# EAGLE library part PCF1252 (library nxp_60)
Threshold detector and reset generator The PCF1252-Xs are low-power CMOS voltage threshold detectors designed especially for supervision of microcontroller/microprocessor systems for detection of power-on/off conditions and generation of a system reset pulse. The PCF1252-X also provides a POWF (power fail) output which is activated at a precise factory-programmed trip point. A system RESET output has a built-in delay with duration determined by an external capacitor (CCT). A second comparator (comparator 2) has been included to enable the possibility of a second monitoring point in the system. AAL Eindhoven MK
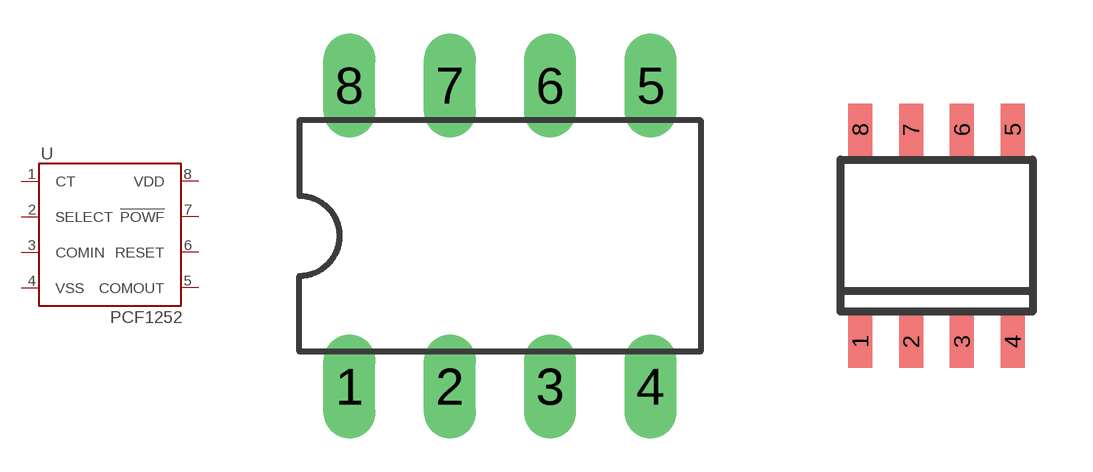
[diagram p107: symbol with the pads of SOT97-1; footprints SOT97-1, SOT96-1]

Designator prefix U

## PCF1252-0P, PCF1252-1P, PCF1252-2P, PCF1252-3P, PCF1252-4P, PCF1252-5P, PCF1252-6P, PCF1252-7P, PCF1252-8P, PCF1252-9P  [SOT97-1]
1  CT  pas
2  SELECT  in
3  COMIN  pas
4  VSS  pwr
5  COMOUT  out
6  RESET  out
7  !POWF!  out
8  VDD  pwr

## PCF1252-0T, PCF1252-1T, PCF1252-2T, PCF1252-3T, PCF1252-4T, PCF1252-5T, PCF1252-6T, PCF1252-7T, PCF1252-8T, PCF1252-9T  [SOT96-1]
Pads as for SOT97-1

## Footprint SOT97-1 (pad centres in mm)
Dual In Line Package
drill 0.813 long: 1 -3.81,-3.81; 2 -1.27,-3.81; 3 1.27,-3.81; 4 3.81,-3.81; 5 3.81,3.81; 6 1.27,3.81; 7 -1.27,3.81; 8 -3.81,3.81

## Footprint SOT96-1 (pad centres in mm)
SOT96-1 SO8: plastic small outline package; 8 leads; body width 3.9 mm JEDEC: MS-012 IEC: 076E03
smd 0.6 x 1.3: 1 -1.905,-2.65; 2 -0.635,-2.65; 3 0.635,-2.65; 4 1.905,-2.65; 5 1.905,2.65; 6 0.635,2.65; 7 -0.635,2.65; 8 -1.905,2.65